# Altium footprint library Connector-Header.PcbLib: 107 footprints (part 1 of 7)
Each footprint in its own frame and in the unit in brackets; x right, y up, seen from the top. Pads: shape width x height; smd on the part's side, far side on the other; paste and mask are expansions set on the pad; w line width, h text height; cw(c..) or ccw(c..) is an arc to the next point about the centre after c.
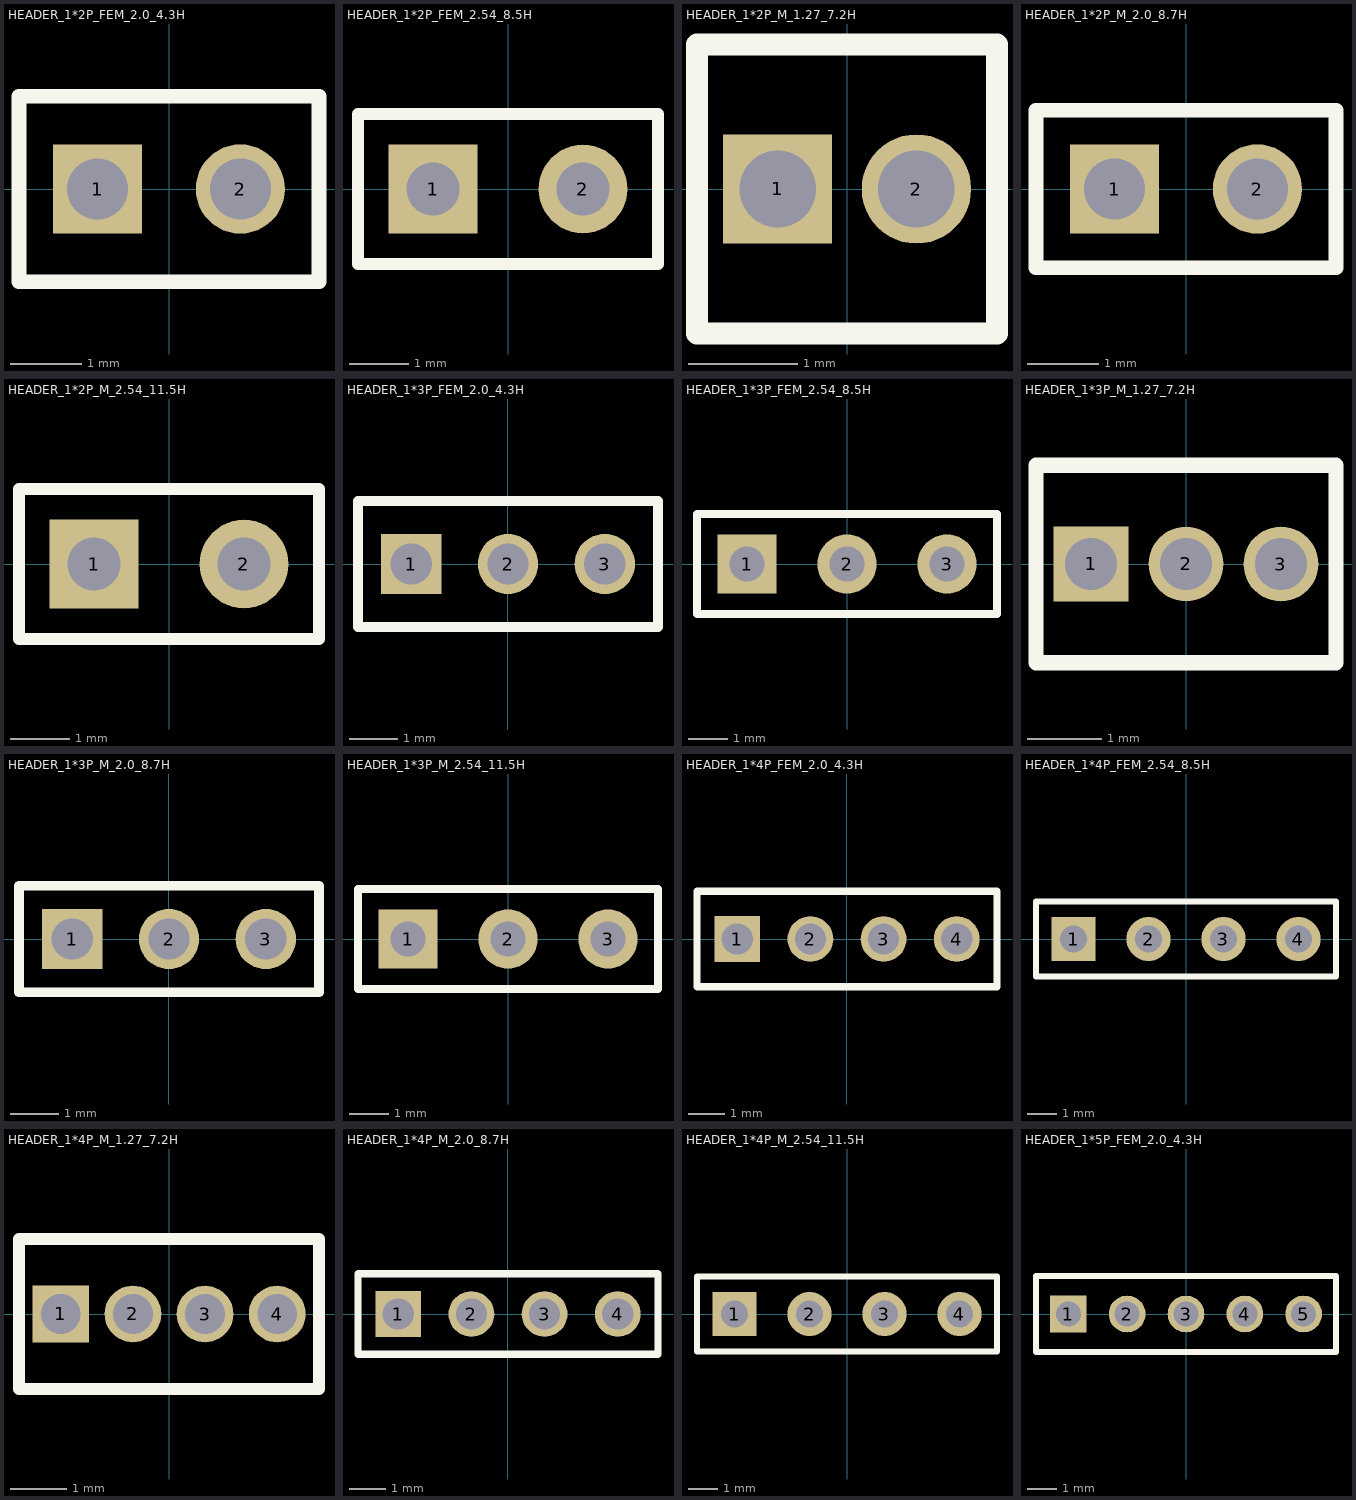
[diagram p0: the footprints below, top view; thin cyan lines are the x and y axes]

## HEADER_1*2P_FEM_2.0_4.3H [mm]
pads (2):
  rect 1.25x1.25 hole 0.85: 1(-1,0)
  round 1.25 hole 0.85: 2(1,0)
Top Overlay:
  lines w0.203: -2.1,-1.3 -2.1,1.3 2.1,1.3 2.1,-1.3 -2.1,-1.3

## HEADER_1*2P_FEM_2.54_8.5H [mm] "Connector; Header; 2 Position"
pads (2):
  rect 1.5x1.5 hole 0.9: 1(-1.27,0)
  round 1.5 hole 0.9: 2(1.27,0)
Top Overlay:
  lines w0.2: -2.54,-1.27 -2.54,1.27 2.54,1.27 2.54,-1.27 -2.54,-1.27
3D body "Header_Female_2Pin.STEP": height 6.02, standoff -3.1, extent -2.54,-1.27 2.54,1.27

## HEADER_1*2P_M_1.27_7.2H [mm]
pads (2):
  rect 1x1 hole 0.7: 1(-0.635,0)
  round 1 hole 0.7: 2(0.635,0)
Top Overlay:
  lines w0.203: -1.372,-1.321 1.372,-1.321 1.372,1.321 -1.372,1.321 -1.372,-1.321
3D body "pin_header_a-sl127-eg-g02d.stp": height 5.34, standoff -2.6, extent -1.27,-1.25 1.27,1.25

## HEADER_1*2P_M_2.0_8.7H [mm]
pads (2):
  rect 1.25x1.25 hole 0.85: 1(-1,0)
  round 1.25 hole 0.85: 2(1,0)
Top Overlay:
  lines w0.203: -2.1,-1.1 -2.1,1.1 2.1,1.1 2.1,-1.1 -2.1,-1.1

## HEADER_1*2P_M_2.54_11.5H [mm] "Connector; Header; 2 Position"
pads (2):
  rect 1.5x1.5 hole 0.9: 1(-1.27,0)
  round 1.5 hole 0.9: 2(1.27,0)
Top Overlay:
  lines w0.2: -2.54,-1.27 -2.54,1.27 2.54,1.27 2.54,-1.27 -2.54,-1.27
3D body "Header_Male_2Pin.STEP": height 8.54, standoff -3, extent -2.54,-1.245 2.54,1.245

## HEADER_1*3P_FEM_2.0_4.3H [mm]
pads (3):
  rect 1.25x1.25 hole 0.85: 1(-2,0)
  round 1.25 hole 0.85: 2(0,0) 3(2,0)
Top Overlay:
  lines w0.203: -3.1,-1.3 -3.1,1.3 3.1,1.3 3.1,-1.3 -3.1,-1.3

## HEADER_1*3P_FEM_2.54_8.5H [mm] "Connector; Header; 3 Position"
pads (3):
  rect 1.5x1.5 hole 0.9: 1(-2.54,0)
  round 1.5 hole 0.9: 2(0,0) 3(2.54,0)
Top Overlay:
  lines w0.2: -3.81,-1.27 3.81,-1.27 3.81,1.27 -3.81,1.27 -3.81,-1.27
3D body "Header_Female_3Pin.STEP": height 6.02, standoff -3.1, extent -3.81,-1.27 3.81,1.27

## HEADER_1*3P_M_1.27_7.2H [mm]
pads (3):
  rect 1x1 hole 0.7: 1(-1.27,0)
  round 1 hole 0.7: 2(0,0) 3(1.27,0)
Top Overlay:
  lines w0.203: -2.007,-1.321 2.007,-1.321 2.007,1.321 -2.007,1.321 -2.007,-1.321

## HEADER_1*3P_M_2.0_8.7H [mm]
pads (3):
  rect 1.25x1.25 hole 0.85: 1(-2,0)
  round 1.25 hole 0.85: 2(0,0) 3(2,0)
Top Overlay:
  lines w0.203: -3.1,-1.1 3.1,-1.1 3.1,1.1 -3.1,1.1 -3.1,-1.1

## HEADER_1*3P_M_2.54_11.5H [mm] "Connector; Header; 3 Position"
pads (3):
  rect 1.5x1.5 hole 0.9: 1(-2.54,0)
  round 1.5 hole 0.9: 2(0,0) 3(2.54,0)
Top Overlay:
  lines w0.2: -3.81,-1.27 -3.81,1.27 3.81,1.27 3.81,-1.27 -3.81,-1.27
3D body "Header_Male_3Pin.STEP": height 8.54, standoff -3, extent -3.81,-1.245 3.81,1.245

## HEADER_1*4P_FEM_2.0_4.3H [mm]
pads (4):
  rect 1.25x1.25 hole 0.85: 1(-3,0)
  round 1.25 hole 0.85: 2(-1,0) 3(1,0) 4(3,0)
Top Overlay:
  lines w0.203: -4.1,-1.3 -4.1,1.3 4.1,1.3 4.1,-1.3 -4.1,-1.3

## HEADER_1*4P_FEM_2.54_8.5H [mm]
pads (4):
  rect 1.5x1.5 hole 0.9: 1(-3.81,0)
  round 1.5 hole 0.9: 2(-1.27,0) 3(1.27,0) 4(3.81,0)
Top Overlay:
  lines w0.2: -5.08,-1.27 5.08,-1.27 5.08,1.27 -5.08,1.27 -5.08,-1.27
3D body "Header_Female_4Pin.STEP": height 6.02, standoff -3.1, extent -5.08,-1.27 5.08,1.27

## HEADER_1*4P_M_1.27_7.2H [mm]
pads (4):
  rect 1x1 hole 0.7: 1(-1.905,0)
  round 1 hole 0.7: 2(-0.635,0) 3(0.635,0) 4(1.905,0)
Top Overlay:
  lines w0.203: -2.642,-1.321 2.642,-1.321 2.642,1.321 -2.642,1.321 -2.642,-1.321
3D body "pin_header_a-sl127-eg-g04d.stp": height 5.34, standoff -2.6, extent -2.54,-1.25 2.54,1.25

## HEADER_1*4P_M_2.0_8.7H [mm]
pads (4):
  rect 1.25x1.25 hole 0.85: 1(-3,0)
  round 1.25 hole 0.85: 2(-1,0) 3(1,0) 4(3,0)
Top Overlay:
  lines w0.203: -4.1,-1.1 4.1,-1.1 4.1,1.1 -4.1,1.1 -4.1,-1.1

## HEADER_1*4P_M_2.54_11.5H [mm]
pads (4):
  rect 1.5x1.5 hole 0.9: 1(-3.81,0)
  round 1.5 hole 0.9: 2(-1.27,0) 3(1.27,0) 4(3.81,0)
Top Overlay:
  lines w0.2: -5.08,-1.27 -5.08,1.27 5.08,1.27 5.08,-1.27 -5.08,-1.27
3D body "User Library-Header_Male_4Pin.STEP": height 8.54, standoff -3, extent -5.08,-1.245 5.08,1.245

## HEADER_1*5P_FEM_2.0_4.3H [mm]
pads (5):
  rect 1.25x1.25 hole 0.85: 1(-4,0)
  round 1.25 hole 0.85: 2(-2,0) 3(0,0) 4(2,0) 5(4,0)
Top Overlay:
  lines w0.203: -5.1,-1.3 -5.1,1.3 5.1,1.3 5.1,-1.3 -5.1,-1.3